# Altium footprint library 09221326922.PcbLib: 1 footprints
Each footprint in its own frame and in the unit in brackets; x right, y up, seen from the top. Pads: shape width x height; smd on the part's side, far side on the other; paste and mask are expansions set on the pad; w line width, h text height; cw(c..) or ccw(c..) is an arc to the next point about the centre after c.
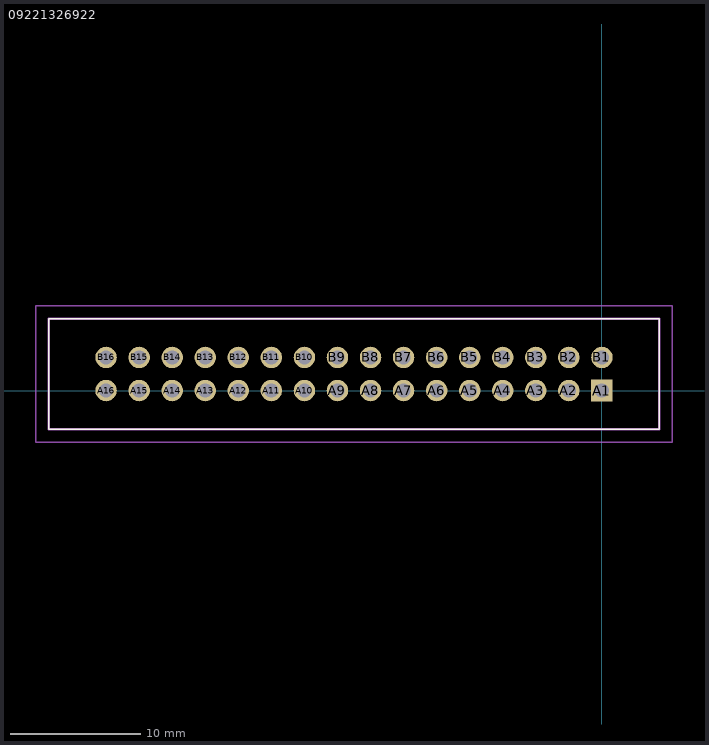
[diagram p0: the footprint, top view; thin cyan lines are the x and y axes]

## 09221326922 [mm]
pads (32):
  rect 1.665x1.665 hole 1.11: A1(0,0)
  round 1.65 hole 1.1: A2(-2.54,0) A3(-5.08,0) A4(-7.62,0) A5(-10.16,0) A6(-12.7,0) A7(-15.24,0) A8(-17.78,0) A9(-20.32,0) A10(-22.86,0) A11(-25.4,0) A12(-27.94,0) A13(-30.48,0) A14(-33.02,0) A15(-35.56,0) A16(-38.1,0) B1(0,2.54) B2(-2.54,2.54) B3(-5.08,2.54) B4(-7.62,2.54) B5(-10.16,2.54) B6(-12.7,2.54) B7(-15.24,2.54) B8(-17.78,2.54) B9(-20.32,2.54) B10(-22.86,2.54) B11(-25.4,2.54) B12(-27.94,2.54) B13(-30.48,2.54) B14(-33.02,2.54) B15(-35.56,2.54) B16(-38.1,2.54)
Top Overlay:
  lines w0.1: -42.5,-2.98 4.4,-2.98 4.4,5.52 -42.5,5.52 -42.5,-2.98
Mechanical 15:
  lines w0.2: -42.5,-2.98 4.4,-2.98 4.4,5.52 -42.5,5.52 -42.5,-2.98
Mechanical 20:
  lines w0.1: -43.5,-3.98 5.4,-3.98 5.4,6.52 -43.5,6.52 -43.5,-3.98